# EAGLE library part ESP32-S2-WROOM-I_M22S2H3200US3 (library ESP32-S2-WROOM-I_M22S2H3200US3)
WiFi Modules (802.11) SMD module , ESP32-S2, 4 MB SPI flash, IPEX antenna connector,-40 C +105 C Source: Datasheet
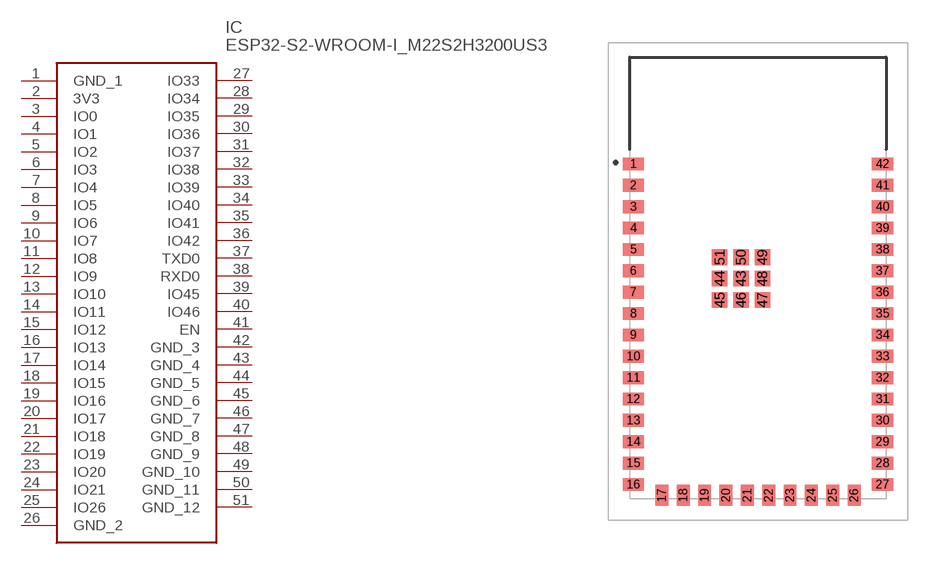
[diagram p0: symbol with the pads of ESP32S2WROOMIM22S2H3200US3Q0; footprint ESP32S2WROOMIM22S2H3200US3Q0]

Designator prefix IC

## ESP32-S2-WROOM-I_M22S2H3200US3 (Description: WiFi Modules (802.11) SMD module , ESP32-S2, 4 MB SPI flash, IPEX antenna connector,-40 C +105 C; Height: 3.45mm; Manufacturer_Name: Espressif Systems; Manufacturer_Part_Number: ESP32-S2-WROOM-I(M22S2H3200US3Q0); Mouser_Part_Number: 356-ESP32S2WRMI320US; Mouser_Price-Stock: https://www.mouser.co.uk/ProductDetail/Espressif-Systems/ESP32-S2-WROOM-IM22S2H3200US3Q0?qs=W%2FMpXkg%252BdQ6NhxEeKuPVlg%3D%3D)  [ESP32S2WROOMIM22S2H3200US3Q0]
1  GND_1
2  3V3
3  IO0
4  IO1
5  IO2
6  IO3
7  IO4
8  IO5
9  IO6
10  IO7
11  IO8
12  IO9
13  IO10
14  IO11
15  IO12
16  IO13
17  IO14
18  IO15
19  IO16
20  IO17
21  IO18
22  IO19
23  IO20
24  IO21
25  IO26
26  GND_2
27  IO33
28  IO34
29  IO35
30  IO36
31  IO37
32  IO38
33  IO39
34  IO40
35  IO41
36  IO42
37  TXD0
38  RXD0
39  IO45
40  IO46
41  EN
42  GND_3
43  GND_4
44  GND_5
45  GND_6
46  GND_7
47  GND_8
48  GND_9
49  GND_10
50  GND_11
51  GND_12

## Footprint ESP32S2WROOMIM22S2H3200US3Q0 (pad centres in mm)
ESP32-S2-WROOM-I(M22S2H3200US3Q0)-1
smd 1.5 x 0.9: 1 -7.56,8.05; 2 -7.56,6.55; 3 -7.56,5.05; 4 -7.56,3.55; 5 -7.56,2.05; 6 -7.56,0.55; 7 -7.56,-0.95; 8 -7.56,-2.45; 9 -7.56,-3.95; 10 -7.56,-5.45; 11 -7.56,-6.95; 12 -7.56,-8.45; 13 -7.56,-9.95; 14 -7.56,-11.45; 15 -7.56,-12.95; 16 -7.56,-14.45; 27 9.94,-14.45; 28 9.94,-12.95; 29 9.94,-11.45; 30 9.94,-9.95; 31 9.94,-8.45; 32 9.94,-6.95; 33 9.94,-5.45; 34 9.94,-3.95; 35 9.94,-2.45; 36 9.94,-0.95; 37 9.94,0.55; 38 9.94,2.05; 39 9.94,3.55; 40 9.94,5.05; 41 9.94,6.55; 42 9.94,8.05
smd 0.9 x 1.5: 17 -5.56,-15.2; 18 -4.06,-15.2; 19 -2.56,-15.2; 20 -1.06,-15.2; 21 0.44,-15.2; 22 1.94,-15.2; 23 3.44,-15.2; 24 4.94,-15.2; 25 6.44,-15.2; 26 7.94,-15.2
smd 1.1 x 1.1: 43 0,0; 44 -1.5,0; 45 -1.5,-1.5; 46 0,-1.5; 47 1.5,-1.5; 48 1.5,0; 49 1.5,1.5; 50 0,1.5; 51 -1.5,1.5